# Altium schematic symbol library SchematicLibrary.SchLib: 16 symbols
Pins are listed as number, name and electrical type; pins without a type are passive.

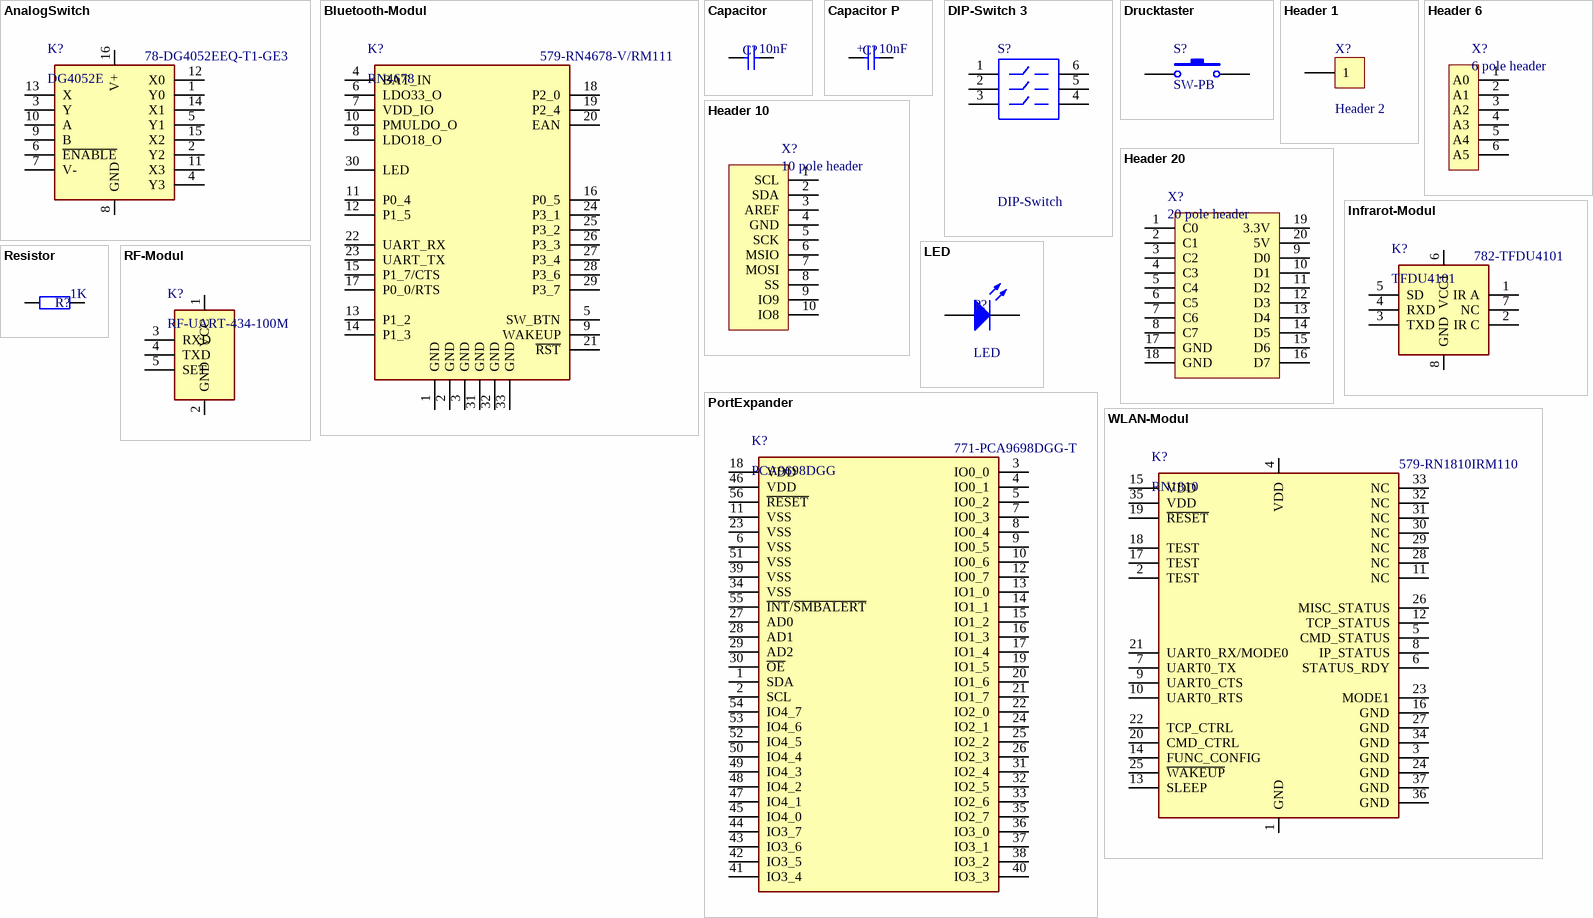
[diagram p0: symbols AnalogSwitch to WLAN-Modul]

## AnalogSwitch
designator K?, comment DG4052E  Supplier Part Number 1: 78-DG4052EEQ-T1-GE3
Analogschalter IC Dual 4 Ch Multiplxr Pd 450mW TSSOP-16; ComponentLink1Description: New link; ComponentLink1URL: https://www.mouser.ch/ProductDetail/Vishay-Siliconix/DG4052EEQ-T1-GE3/?qs=sGAEpiMZZMutXGli8Ay4kBLYPnxy%2FFiifqIQaprXThA%3D; Supplier 1: Mouser
footprint TSSOP-16
pins: 1 Y0, 2 Y2, 3 Y, 4 Y3, 5 Y1, 6 ~{ENABLE}, 7 V-, 8 GND, 9 B, 10 A, 11 X3, 12 X0, 13 X, 14 X1, 15 X2, 16 V+

## Bluetooth-Modul
designator K?, comment RN4678  Supplier Part Number 1: 579-RN4678-V/RM111
Bluetooth-Module (802.15.1) Bluetooth 5 Dual Mode with Shield & Antenna Module with ASCII Interface FW 1.11; ComponentLink1Description: New link; ComponentLink1URL: https://www.mouser.ch/ProductDetail/Microchip-Technology/RN4678-V-RM111/?qs=sGAEpiMZZMu3sxpa5v1qrgkV%252BmLWY283d9hxH7L%2F%2FyI%3D; Supplier 1: Mouser
footprint RN4678 Bluetooth Modul
pins: 1 GND, 2 GND, 3 GND, 4 BAT_IN, 5 SW_BTN, 6 LDO33_O, 7 VDD_IO, 8 LDO18_O, 9 WAKEUP, 10 PMULDO_O, 11 P0_4, 12 P1_5, 13 P1_2, 14 P1_3, 15 P1_7/CTS, 16 P0_5, 17 P0_0/RTS, 18 P2_0, 19 P2_4, 20 EAN, 21 ~{RST}, 22 UART_RX, 23 UART_TX, 24 P3_1, 25 P3_2, 26 P3_3, 27 P3_4, 28 P3_6, 29 P3_7, 30 LED, 31 GND, 32 GND, 33 GND

## Capacitor
designator C?  value 10nF  (hidden comment: Capacitor)
Non polarized capacitor; LatestRevisionDate: 01.04.2019; Publisher: ICT Berufsbildungscenter AG
footprint CAP CER 0402 R (0402 ceramic capacitor for reflow soldering)
footprint CAP CER 0603 H (0603 ceramic capacitor for hand soldering)
footprint CAP CER 0603 R (0603 ceramic capacitor for reflow soldering)
footprint CAP CER 0805 H (0805 resistor for hand soldering)
footprint CAP CER 0805 R (0805 ceramic capacitor for reflow soldering)
footprint CAP CER 1206 H (1206 ceramic capacitor for hand soldering)
footprint CAP CER 1206 R (1206 ceramic capacitor for reflow soldering)
footprint CAP CER 1210 H (1210 ceramic capacitor for hand soldering)
footprint CAP CER 1210 R (1210 ceramic capacitor for reflow soldering)
footprint CAP FILM 5mm (film capacitor with a 5mm pitch)
footprint CAP FILM 7.5mm (film capacitor with a 7.5mm pitch)
footprint CAP FILM 10mm (film capacitor with a 10mm pitch)
footprint CAP FILM 15mm (film capacitor with a 15mm pitch)
footprint CAP FILM 22.5mm (film capacitor with a 22.5mm pitch)
footprint CAP CER 2.5mm (ceramic capacitor for tht mount with a 2.5mm pitch)
footprint CAP CER 3.75mm (ceramic capacitor for tht mount with a 3.75mm pitch)
footprint CAP CER 5mm (ceramic capacitor for tht mount with a 5mm pitch)
pins: 1, 2

## Capacitor P
designator C?, comment value 10nF  (hidden comment: Capacitor)
Polarized Capacitor; LatestRevisionDate: 02.04.2019; Publisher: ICT Berufsbildungscenter AG
footprint CAP TAN A H (tantalum chip coapcitor casetype A for hand soldering)
footprint CAP TAN A R (tantalum chip coapcitor casetype A for reflow soldering)
footprint CAP TAN B H (tantalum chip coapcitor casetype B for hand soldering)
footprint CAP TAN B R (tantalum chip coapcitor casetype B for reflow soldering)
footprint CAP TAN C H (tantalum chip coapcitor casetype C for hand soldering)
footprint CAP TAN C R (tantalum chip coapcitor casetype C for reflow soldering)
footprint CAP TAN D H (tantalum chip coapcitor casetype D for hand soldering)
footprint CAP TAN D R (tantalum chip coapcitor casetype D for reflow soldering)
footprint CAP TAN R H (tantalum chip coapcitor casetype R for hand soldering)
footprint CAP TAN R R (tantalum chip coapcitor casetype R for reflow soldering)
footprint CAP ELKO 5x7x2 L (aluminium electrolytic capacitor lying on the pcb / d=5, h=7, pitch = 2)
footprint CAP ELKO 5x7x2 S (aluminium electrolytic capacitor standing upright on the pcb / d=5, h=7, pitch = 2)
footprint CAP ELKO 5x11x2 L (aluminium electrolytic capacitor lying on the pcb / d=5, h=11, pitch = 2)
footprint CAP ELKO 5x11x2 S (aluminium electrolytic capacitor standing upright on the pcb / d=5, h=11, pitch = 2)
footprint CAP ELKO 6.3x7x2.5 L (aluminium electrolytic capacitor lying on the pcb / d=6.3, h=7, pitch = 2.5)
footprint CAP ELKO 6.3x7x2.5 S (aluminium electrolytic capacitor standing upright on the pcb / d=6.3, h=7, pitch = 2.5)
footprint CAP ELKO 6.3x11x2 L (aluminium electrolytic capacitor lying on the pcb / d=6.3, h=11, pitch = 2)
footprint CAP ELKO 6.3x11x2 S (aluminium electrolytic capacitor standing upright on the pcb / d=6.3, h=11, pitch = 2)
footprint CAP ELKO 6.3x11x2.5 L (aluminium electrolytic capacitor lying on the pcb / d=6.3, h=11, pitch = 2.5)
footprint CAP ELKO 6.3x11x2.5 S (aluminium electrolytic capacitor standing upright on the pcb / d=6.3, h=11, pitch = 2.5)
footprint CAP ELKO 6.3x12.5x2.5 L (aluminium electrolytic capacitor lying on the pcb / d=6.3, h=12.5, pitch = 2.5)
footprint CAP ELKO 6.3x12.5x2.5 S (aluminium electrolytic capacitor standing upright on the pcb / d=6.3, h=12.5, pitch = 2.5)
footprint CAP ELKO 8x11.5x3.5 L (aluminium electrolytic capacitor lying on the pcb / d=8, h=11.5, pitch = 3.5)
footprint CAP ELKO 8x11.5x3.5 S (aluminium electrolytic capacitor standing upright on the pcb / d=8, h=11.5, pitch = 3.5)
footprint CAP ELKO 10x12.5x5 L (aluminium electrolytic capacitor lying on the pcb / d=10, h=12.5, pitch = 5)
footprint CAP ELKO 10x12.5x5 S (aluminium electrolytic capacitor standing upright on the pcb / d=10, h=12.5, pitch = 5)
footprint CAP ELKO 10x16x5 L (aluminium electrolytic capacitor lying on the pcb / d=10, h=16, pitch = 5)
footprint CAP ELKO 10x16x5 S (aluminium electrolytic capacitor standing upright on the pcb / d=10, h=16, pitch = 5)
footprint CAP ELKO 10x20x5 S (aluminium electrolytic capacitor standing upright on the pcb / d=10, h=20, pitch = 5)
footprint CAP ELKO 10x25x5 S (aluminium electrolytic capacitor standing upright on the pcb / d=10, h=25, pitch = 5)
footprint CAP ELKO 12.5x20x5 S (aluminium electrolytic capacitor standing upright on the pcb / d=12.5, h=20, pitch = 5)
footprint CAP ELKO 12.5x25x5 S (aluminium electrolytic capacitor standing upright on the pcb / d=12.5, h=25, pitch = 5)
footprint CAP ELKO 12.5x30x5 S (aluminium electrolytic capacitor standing upright on the pcb / d=12.5, h=30, pitch = 5)
footprint CAP ELKO 16x20x7.5 S (aluminium electrolytic capacitor standing upright on the pcb / d=16, h=20, pitch = 7.5)
footprint CAP ELKO 16x25x7.5 S (aluminium electrolytic capacitor standing upright on the pcb / d=16, h=25, pitch = 7.5)
footprint CAP ELKO 16x31.5x7.5 S (aluminium electrolytic capacitor standing upright on the pcb / d=16, h=31.5, pitch = 7.5)
footprint CAP ELKO 16x40x7.5 S (aluminium electrolytic capacitor standing upright on the pcb / d=16, h=40, pitch = 7.5)
footprint CAP ELKO 18x20x7.5 S (aluminium electrolytic capacitor standing upright on the pcb / d=18, h=20, pitch = 7.5)
footprint CAP ELKO 18x25x7.5 S (aluminium electrolytic capacitor standing upright on the pcb / d=18, h=25, pitch = 7.5)
footprint CAP ELKO 18x30x7.5 S (aluminium electrolytic capacitor standing upright on the pcb / d=18, h=30, pitch = 7.5)
footprint CAP ELKO 18x40x7.5 S (aluminium electrolytic capacitor standing upright on the pcb / d=18, h=40, pitch = 7.5)
footprint CAP ELKO B H (aluminium electrolytic capacitor surface mount case B)
footprint CAP ELKO C H (aluminium electrolytic capacitor surface mount case C)
footprint CAP ELKO D H (aluminium electrolytic capacitor surface mount case D)
footprint CAP ELKO D8 H (aluminium electrolytic capacitor surface mount case D8)
footprint CAP ELKO E H (aluminium electrolytic capacitor surface mount case E)
footprint CAP ELKO F H (aluminium electrolytic capacitor surface mount case F)
footprint CAP ELKO G H (aluminium electrolytic capacitor surface mount case G)
footprint CAP ELKO H13 H (aluminium electrolytic capacitor surface mount case H13)
footprint CAP ELKO J16 H (aluminium electrolytic capacitor surface mount case J16)
footprint CAP ELKO K16 H (aluminium electrolytic capacitor surface mount case K16)
footprint CAP TAN 2.5mm
pins: A Anode, C Cathode
text: +

## DIP-Switch 3
designator S?, comment DIP-Switch
Dip Switch with 3 switches; Published: 03.10.2019; LatestRevisionDate: 03.10.2019; Publisher: ICT Berufsbildungscenter AG; ComponentLink1Description: Manufacturer Link; ComponentLink1URL: http://www.oupiin.com/prodindx.html#Headers
footprint DIP Switch SMD 3 H (Dipswitch for surface mount / hand soldering)
pins: 1, 2, 3, 4, 5, 6

## Drucktaster
designator S?, comment SW-PB
Switch, SMD; Published: 24-Mar-1999; LatestRevisionDate: 17-Jul-2002; LatestRevisionNote: Re-released for DXP Platform.; PackageReference: SPST-2; Publisher: Altium Limited; PackageDescription: Switch; 2 Leads
footprint okdrucktaster
pins: 1, 4

## Header 1
designator X?, comment Header 2
Header, 2-Pin; LatestRevisionDate: 17-Jul-2002; LatestRevisionNote: Re-released for DXP Platform.; Publisher: Altium Limited
footprint HDR1X2 (Connector; Header; 2 Position)
signal-integrity model Connector
footprint TouchPads
pins: 1

## Header 6
designator X?, comment 6 pole header
board to board header; LatestRevisionDate: 02.05.2019; Publisher: ICT Berufsbildungscenter AG
footprint Header THT female 1x6 (header for tht mounting / pitch = 2.54mm)
footprint Header THT female 1x6 RA (right angled header for tht mounting / pitch = 2.54mm)
footprint Header THT female 2x3 (header for tht mounting / pitch = 2.54mm)
footprint Header THT female 2x3 RA (right angled header for tht mounting / pitch = 2.54mm)
footprint Header THT male 1x6 (header for tht mounting / pitch = 2.54mm)
footprint Header THT male 1x6 RA (right angle header for tht mounting / pitch = 2.54mm)
footprint Header THT male 2x3 (header for tht mounting / pitch = 2.54mm)
footprint Header THT male 2x3 RA (right angle header for tht mounting / pitch = 2.54mm)
footprint Header SMD Male 1x6 H (male header for smd mounting / pitch = 2.54mm / hand soldering)
footprint Header SMD Male 1x6 R (male header for smd mounting / pitch = 2.54mm / reflow soldering)
footprint Header SMD Male 2x3 H (male header for smd mounting / pitch = 2.54mm / hand soldering)
footprint Header SMD Male 2x3 R (male header for smd mounting / pitch = 2.54mm / reflow soldering)
footprint Header SMD Male 1x6 RA H (right angled male header for smd mounting / pitch = 2.54mm / hand soldering)
pins: 1 A0, 2 A1, 3 A2, 4 A3, 5 A4, 6 A5

## Header 10
designator X?, comment 10 pole header
board to board header; LatestRevisionDate: 02.05.2019; Publisher: ICT Berufsbildungscenter AG
footprint Header THT female 2x5 (header for tht mounting / pitch = 2.54mm)
footprint Header THT female 2x5 RA (right angled header for tht mounting / pitch = 2.54mm)
footprint Header THT male 1x10 (header for tht mounting / pitch = 2.54mm)
footprint Header THT male 1x10 RA (right angle header for tht mounting / pitch = 2.54mm)
footprint Header THT male 2x5 (header for tht mounting / pitch = 2.54mm)
footprint Header THT male 2x5 RA (right angle header for tht mounting / pitch = 2.54mm)
footprint Header THT female 1x10 (header for tht mounting / pitch = 2.54mm)
footprint Header THT female 1x10 RA (right angled header for tht mounting / pitch = 2.54mm)
footprint Header SMD Male 1x10 H (male header for smd mounting / pitch = 2.54mm / hand soldering)
footprint Header SMD Male 1x10 R (male header for smd mounting / pitch = 2.54mm / reflow soldering)
footprint Header SMD Male 2x5 H (male header for smd mounting / pitch = 2.54mm / hand soldering / hand soldering)
footprint Header SMD Male 2x5 R (male header for smd mounting / pitch = 2.54mm / hand soldering / reflow soldering)
footprint Header SMD Male 1x10 RA H (right angled male header for smd mounting / pitch = 2.54mm / hand soldering)
pins: 1 SCL, 2 SDA, 3 AREF, 4 GND, 5 SCK, 6 MSIO, 7 MOSI, 8 SS, 9 IO9, 10 IO8

## Header 20
designator X?, comment 20 pole header
board to board header; LatestRevisionDate: 02.05.2019; Publisher: ICT Berufsbildungscenter AG
footprint Header THT female 2x10 (header for tht mounting / pitch = 2.54mm)
footprint Header THT female 2x10 RA (right angled header for tht mounting / pitch = 2.54mm)
footprint Header THT male 2x10 (header for tht mounting / pitch = 2.54mm)
footprint Header THT male 2x10 RA (right angle header for tht mounting / pitch = 2.54mm)
footprint Header SMD Male 2x10 H (male header for smd mounting / pitch = 2.54mm / hand soldering)
footprint Header SMD Male 2x10 R (male header for smd mounting / pitch = 2.54mm / reflow soldering)
pins: 1 C0, 2 C1, 3 C2, 4 C3, 5 C4, 6 C5, 7 C6, 8 C7, 9 D0, 10 D1, 11 D2, 12 D3, 13 D4, 14 D5, 15 D6, 16 D7, 17 GND, 18 GND, 19 3.3V, 20 5V

## Infrarot-Modul
designator K?, comment TFDU4101  Supplier Part Number 1: 782-TFDU4101
Infrarot-Transceiver SIR 115.2 kbits/s; ComponentLink1Description: New link; ComponentLink1URL: https://www.mouser.ch/ProductDetail/Vishay-Semiconductors/TFDU4101-TR3/?qs=4vzNq8kLoSZaXF7Bmpq4%252Bw%3D%3D; Supplier 1: Mouser
footprint TFDU4101 Infrarot Modul
pins: 1 IR A, 2 IR C, 3 TXD, 4 RXD, 5 SD, 6 VCC1, 7 NC, 8 GND

## LED
designator P?
Light emitting diode; LatestRevisionDate: 03.04.2019; Publisher: ICT Berufsbildungscenter AG
footprint LED 3mm blue (LED for tht mounting with 3mm diameter)
footprint LED 3mm green (LED for tht mounting with 3mm diameter)
footprint LED 3mm red (LED for tht mounting with 3mm diameter)
footprint LED 3mm yellow (LED for tht mounting with 3mm diameter)
footprint LED 5mm blue (LED for tht mounting with 5mm diameter)
footprint LED 5mm green (LED for tht mounting with 5mm diameter)
footprint LED 5mm red (LED for tht mounting with 5mm diameter)
footprint LED 5mm yellow (LED for tht mounting with 5mm diameter)
footprint LED 1206 blue H (SMD LED for hand soldering)
footprint LED 1206 blue R (SMD LED for reflow soldering)
footprint LED 1206 green H (SMD LED for hand soldering)
footprint LED 1206 green R (SMD LED for reflow soldering)
footprint LED 1206 red H (SMD LED)
footprint LED 1206 red R (SMD LED for reflow soldering)
footprint LED 1206 yellow H (SMD LED for hand soldering)
footprint LED 1206 yellow R (SMD LED for reflow soldering)
pins: A Anode, C Cathode

## PortExpander
designator K?, comment PCA9698DGG  Supplier Part Number 1: 771-PCA9698DGG-T
Schnittstelle - I/O-Erweiterer 40BT I2C FM+TPGPIO IN-RS-PU OE; ComponentLink1Description: New link; ComponentLink1URL: https://www.mouser.ch/ProductDetail/NXP-Semiconductors/PCA9698DGG518/?qs=LOCUfHb8d9vt%2F8QN9%2FBdTQ%3D%3D; Supplier 1: Mouser
footprint TSSOP-56
pins: 1 SDA, 2 SCL, 3 IO0_0, 4 IO0_1, 5 IO0_2, 6 VSS, 7 IO0_3, 8 IO0_4, 9 IO0_5, 10 IO0_6, 11 VSS, 12 IO0_7, 13 IO1_0, 14 IO1_1, 15 IO1_2, 16 IO1_3, 17 IO1_4, 18 VDD, 19 IO1_5, 20 IO1_6, 21 IO1_7, 22 IO2_0, 23 VSS, 24 IO2_1, 25 IO2_2, 26 IO2_3, 27 AD0, 28 AD1, 29 AD2, 30 ~{OE}, 31 IO2_4, 32 IO2_5, 33 IO2_6, 34 VSS, 35 IO2_7, 36 IO3_0, 37 IO3_1, 38 IO3_2, 39 VSS, 40 IO3_3, 41 IO3_4, 42 IO3_5, 43 IO3_6, 44 IO3_7, 45 IO4_0, 46 VDD, 47 IO4_1, 48 IO4_2, 49 IO4_3, 50 IO4_4, 51 VSS, 52 IO4_5, 53 IO4_6, 54 IO4_7, 55 ~{INT}/~{SMBALERT}, 56 ~{RESET}

## Resistor
designator R?  value 1K  (hidden comment: Resistor)
LatestRevisionDate: 02.04.2019; Publisher: ICT Berufsbildungscenter AG
footprint RES 0402 R (0402 resistor for reflow soldering)
footprint RES 0603 H (0603 resistor for hand soldering)
footprint RES 0603 R (0603 resistor for reflow soldering)
footprint RES 0805 H (0805 resistor for hand soldering)
footprint RES 0805 R (0805 resistor for reflow soldering)
footprint RES 1206 H (1206 resistor for hand soldering)
footprint RES 1206 R (1206 resistor for reflow soldering)
footprint RES THT 7.5mm (resistor for tht mounting with a 7.5mm pitch)
footprint RES THT 10mm (resistor for tht mounting with a 10mm pitch)
pins: 1, 2

## RF-Modul
designator K?, comment RF-UART-434-100M
RF-Modul UART/TTL Interface 100M; ComponentLink1Description: New link; ComponentLink1URL: https://www.cytron.io/p-434mhz-rf-transceiver-module-uart-100m
footprint RF-UART-434-100M
pins: 1 VCC, 2 GND, 3 RXD, 4 TXD, 5 SET

## WLAN-Modul
designator K?, comment RN1810  Supplier Part Number 1: 579-RN1810IRM110
WLAN-Module (802.11) On board WiFiWiFly UART and PCB antenna; ComponentLink1Description: New link; ComponentLink1URL: https://www.mouser.ch/ProductDetail/Microchip-Technology/RN1810-I-RM110/?qs=Gd3Cm49KlLOYbRKPwYAFPg%3D%3D; Supplier 1: Mouser
footprint RN1810 WLAN
pins: 1 GND, 2 TEST, 3 GND, 4 VDD, 5 CMD_STATUS, 6 STATUS_RDY, 7 UART0_TX, 8 IP_STATUS, 9 UART0_CTS, 10 UART0_RTS, 11 NC, 12 TCP_STATUS, 13 SLEEP, 14 FUNC_CONFIG, 15 VDD, 16 GND, 17 TEST, 18 TEST, 19 ~{RESET}, 20 CMD_CTRL, 21 UART0_RX/MODE0, 22 TCP_CTRL, 23 MODE1, 24 GND, 25 ~{WAKEUP}, 26 MISC_STATUS, 27 GND, 28 NC, 29 NC, 30 NC, 31 NC, 32 NC, 33 NC, 34 GND, 35 VDD, 36 GND, 37 GND